# Altium footprint library C0805C334K5RACAUTO.PcbLib: 3 footprints
Each footprint in its own frame and in the unit in brackets; x right, y up, seen from the top. Pads: shape width x height; smd on the part's side, far side on the other; paste and mask are expansions set on the pad; w line width, h text height; cw(c..) or ccw(c..) is an arc to the next point about the centre after c.
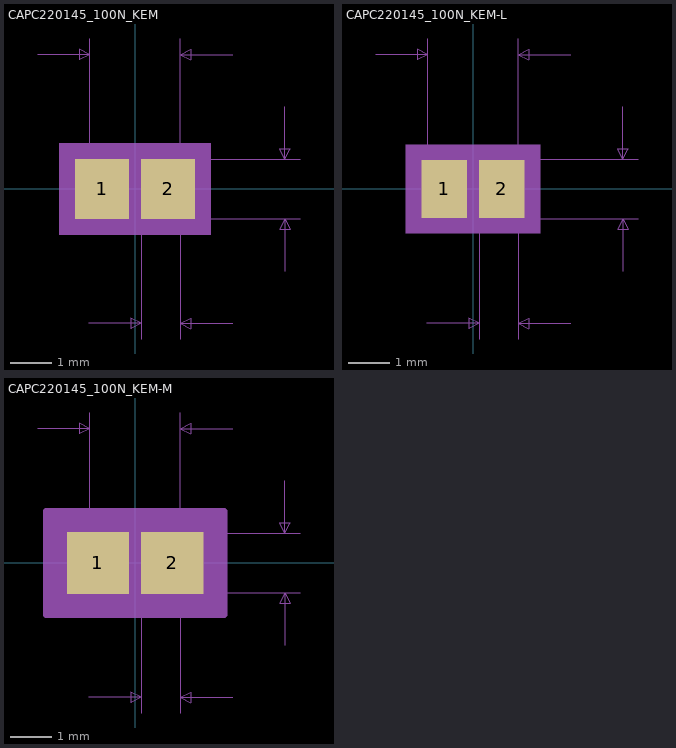
[diagram p0: the footprints below, top view; thin cyan lines are the x and y axes]

## CAPC220145_100N_KEM [mm]
pads (2):
  rect 1.306x1.45 smd paste+0 mask+0: 1(-0.803,0) 2(0.803,0)
Mechanical 5:
  region: 1.837,-1.106 -1.837,-1.106 -1.837,1.106 1.837,1.106
Mechanical 7:
  lines w0.025: -2.37,3.265 -1.1,3.265 ; -1.12,-3.265 0.15,-3.265 ; -1.1,0 -1.1,3.646 ; 0,-0.725 4.021,-0.725 ; 0,0.725 4.021,0.725 ; 0.15,-3.646 0.15,0 ; 1.1,-3.646 1.1,0 1.1,3.646 ; 2.37,-3.265 1.1,-3.265 ; 2.37,3.265 1.1,3.265 ; 3.64,-1.995 3.64,-0.725 ; 3.64,1.995 3.64,0.725 ; -1.1,3.265 -1.354,3.392 -1.354,3.138 -1.1,3.265 ; 0.15,-3.265 -0.104,-3.138 -0.104,-3.392 0.15,-3.265 ; 1.1,-3.265 1.354,-3.138 1.354,-3.392 1.1,-3.265 ; 1.1,3.265 1.354,3.392 1.354,3.138 1.1,3.265 ; 3.64,-0.725 3.513,-0.979 3.767,-0.979 3.64,-0.725 ; 3.64,0.725 3.513,0.979 3.767,0.979 3.64,0.725
  text "Default Padstyle: RX51p4Y57p09D0T" at -10.477,-7.583 h1.27
  text "Alternate 1 Padstyle: OX60Y90D30P" at -10.477,-10.123 h1.27
  text "Alternate 2 Padstyle: OX90Y60D30P" at -10.477,-12.663 h1.27
  text "0.057in/1.45mm" at 4.148,-0.318 h0.64
  text "0.087in/2.2mm" at -2.064,3.773 h0.64
  text "0.03in/0.75mm" at -1.439,-4.408 h0.64
Mechanical 13:
  lines w0.025: -1.1,-0.725 -1.1,0.725 ; -1.1,-0.725 -0.35,-0.725 -0.35,0.725 -1.1,0.725 ; -1.1,-0.725 1.1,-0.725 ; -1.1,-0.725 -1.1,0.725 ; -1.1,0.725 1.1,0.725 ; 1.1,-0.725 0.35,-0.725 0.35,0.725 1.1,0.725 ; 1.1,-0.725 1.1,0.725 ; 1.1,-0.725 1.1,0.725
Mechanical 15:
  region: 1.71,-0.979 -1.71,-0.979 -1.71,0.979 1.71,0.979
  lines w0.152: -1.71,-0.979 -1.71,0.979 1.71,0.979 1.71,-0.979 -1.71,-0.979
3D body: height 0.25, standoff 0, extent 0,0 0.254,0.254

## CAPC220145_100N_KEM-L [mm]
pads (2):
  rect 1.102x1.399 smd paste+0 mask+0: 1(-0.701,0) 2(0.701,0)
Mechanical 5:
  region: 1.633,-1.081 -1.633,-1.081 -1.633,1.081 1.633,1.081
Mechanical 7:
  lines w0.025: -2.37,3.265 -1.1,3.265 ; -1.12,-3.265 0.15,-3.265 ; -1.1,0 -1.1,3.646 ; 0,-0.725 4.021,-0.725 ; 0,0.725 4.021,0.725 ; 0.15,-3.646 0.15,0 ; 1.1,-3.646 1.1,0 1.1,3.646 ; 2.37,-3.265 1.1,-3.265 ; 2.37,3.265 1.1,3.265 ; 3.64,-1.995 3.64,-0.725 ; 3.64,1.995 3.64,0.725 ; -1.1,3.265 -1.354,3.392 -1.354,3.138 -1.1,3.265 ; 0.15,-3.265 -0.104,-3.138 -0.104,-3.392 0.15,-3.265 ; 1.1,-3.265 1.354,-3.138 1.354,-3.392 1.1,-3.265 ; 1.1,3.265 1.354,3.392 1.354,3.138 1.1,3.265 ; 3.64,-0.725 3.513,-0.979 3.767,-0.979 3.64,-0.725 ; 3.64,0.725 3.513,0.979 3.767,0.979 3.64,0.725
  text "Default Padstyle: RX43p4Y55p09D0T" at -10.477,-7.558 h1.27
  text "Alternate 1 Padstyle: OX60Y90D30P" at -10.477,-10.098 h1.27
  text "Alternate 2 Padstyle: OX90Y60D30P" at -10.477,-12.638 h1.27
  text "0.057in/1.45mm" at 4.148,-0.318 h0.64
  text "0.087in/2.2mm" at -2.064,3.773 h0.64
  text "0.03in/0.75mm" at -1.439,-4.408 h0.64
Mechanical 13:
  lines w0.025: -1.1,-0.725 -1.1,0.725 ; -1.1,-0.725 -0.35,-0.725 -0.35,0.725 -1.1,0.725 ; -1.1,-0.725 1.1,-0.725 ; -1.1,-0.725 -1.1,0.725 ; -1.1,0.725 1.1,0.725 ; 1.1,-0.725 0.35,-0.725 0.35,0.725 1.1,0.725 ; 1.1,-0.725 1.1,0.725 ; 1.1,-0.725 1.1,0.725
Mechanical 15:
  region: 1.354,-0.801 -1.354,-0.801 -1.354,0.801 1.354,0.801
  lines w0.152: -1.354,-0.801 -1.354,0.801 1.354,0.801 1.354,-0.801 -1.354,-0.801
3D body: height 0.25, standoff 0, extent 0,0 0.254,0.254

## CAPC220145_100N_KEM-M [mm]
pads (2):
  rect 1.509x1.501 smd paste+0 mask+0: 1(-0.904,0) 2(0.904,0)
Mechanical 5:
  region: 2.04,-1.131 -2.04,-1.131 -2.04,1.131 2.04,1.131
Mechanical 7:
  lines w0.025: -2.37,3.265 -1.1,3.265 ; -1.12,-3.265 0.15,-3.265 ; -1.1,0 -1.1,3.646 ; 0,-0.725 4.021,-0.725 ; 0,0.725 4.021,0.725 ; 0.15,-3.646 0.15,0 ; 1.1,-3.646 1.1,0 1.1,3.646 ; 2.37,-3.265 1.1,-3.265 ; 2.37,3.265 1.1,3.265 ; 3.64,-1.995 3.64,-0.725 ; 3.64,1.995 3.64,0.725 ; -1.1,3.265 -1.354,3.392 -1.354,3.138 -1.1,3.265 ; 0.15,-3.265 -0.104,-3.138 -0.104,-3.392 0.15,-3.265 ; 1.1,-3.265 1.354,-3.138 1.354,-3.392 1.1,-3.265 ; 1.1,3.265 1.354,3.392 1.354,3.138 1.1,3.265 ; 3.64,-0.725 3.513,-0.979 3.767,-0.979 3.64,-0.725 ; 3.64,0.725 3.513,0.979 3.767,0.979 3.64,0.725
  text "Default Padstyle: RX59p4Y59p09D0T" at -10.477,-7.608 h1.27
  text "Alternate 1 Padstyle: OX60Y90D30P" at -10.477,-10.148 h1.27
  text "Alternate 2 Padstyle: OX90Y60D30P" at -10.477,-12.688 h1.27
  text "0.057in/1.45mm" at 4.148,-0.318 h0.64
  text "0.087in/2.2mm" at -2.064,3.773 h0.64
  text "0.03in/0.75mm" at -1.439,-4.408 h0.64
Mechanical 13:
  lines w0.025: -1.1,-0.725 -1.1,0.725 ; -1.1,-0.725 -0.35,-0.725 -0.35,0.725 -1.1,0.725 ; -1.1,-0.725 1.1,-0.725 ; -1.1,-0.725 -1.1,0.725 ; -1.1,0.725 1.1,0.725 ; 1.1,-0.725 0.35,-0.725 0.35,0.725 1.1,0.725 ; 1.1,-0.725 1.1,0.725 ; 1.1,-0.725 1.1,0.725
Mechanical 15:
  region: 2.167,-1.258 -2.167,-1.258 -2.167,1.258 2.167,1.258
  lines w0.152: -2.167,-1.258 -2.167,1.258 2.167,1.258 2.167,-1.258 -2.167,-1.258
3D body: height 0.25, standoff 0, extent 0,0 0.254,0.254